# EAGLE library part XCR3128XL-VQ100 (library xess)
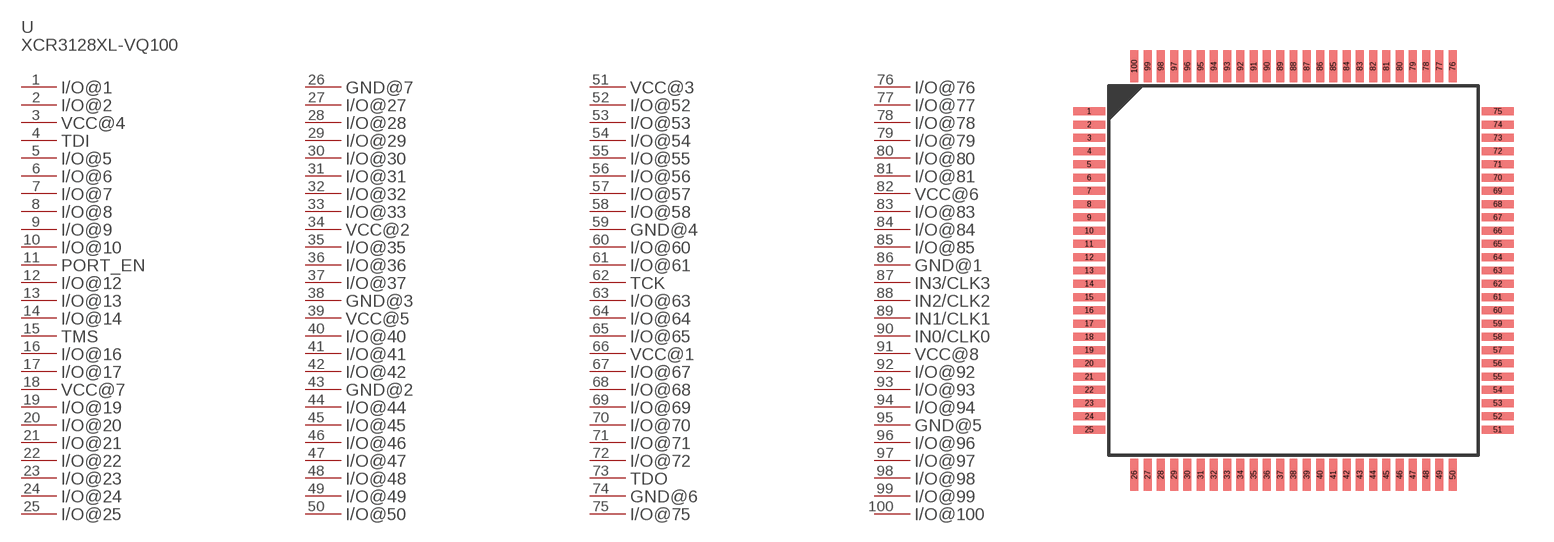
[diagram p60: symbol with the pads of XCR3128XL-VQ100; footprint XCR3128XL-VQ100]

Designator prefix U; gates PART_VALUE=PART_VALUE-XCR3128XL-VQ100 I/O@1=PL-XCR3128XL-VQ100 I/O@2=PL-XCR3128XL-VQ100 VCC@4=PL-XCR3128XL-VQ100 TDI=PL-XCR3128XL-VQ100 I/O@5=PL-XCR3128XL-VQ100 I/O@6=PL-XCR3128XL-VQ100 I/O@7=PL-XCR3128XL-VQ100 I/O@8=PL-XCR3128XL-VQ100 I/O@9=PL-XCR3128XL-VQ100 I/O@10=PL-XCR3128XL-VQ100 PORT_EN=PL-XCR3128XL-VQ100 I/O@12=PL-XCR3128XL-VQ100 I/O@13=PL-XCR3128XL-VQ100 I/O@14=PL-XCR3128XL-VQ100 TMS=PL-XCR3128XL-VQ100 I/O@16=PL-XCR3128XL-VQ100 I/O@17=PL-XCR3128XL-VQ100 VCC@7=PL-XCR3128XL-VQ100 I/O@19=PL-XCR3128XL-VQ100 I/O@20=PL-XCR3128XL-VQ100 I/O@21=PL-XCR3128XL-VQ100 I/O@22=PL-XCR3128XL-VQ100 I/O@23=PL-XCR3128XL-VQ100 I/O@24=PL-XCR3128XL-VQ100 I/O@25=PL-XCR3128XL-VQ100 GND@7=PL-XCR3128XL-VQ100 I/O@27=PL-XCR3128XL-VQ100 I/O@28=PL-XCR3128XL-VQ100 I/O@29=PL-XCR3128XL-VQ100 I/O@30=PL-XCR3128XL-VQ100 I/O@31=PL-XCR3128XL-VQ100 I/O@32=PL-XCR3128XL-VQ100 I/O@33=PL-XCR3128XL-VQ100 VCC@2=PL-XCR3128XL-VQ100 I/O@35=PL-XCR3128XL-VQ100 I/O@36=PL-XCR3128XL-VQ100 I/O@37=PL-XCR3128XL-VQ100 GND@3=PL-XCR3128XL-VQ100 VCC@5=PL-XCR3128XL-VQ100 I/O@40=PL-XCR3128XL-VQ100 I/O@41=PL-XCR3128XL-VQ100 I/O@42=PL-XCR3128XL-VQ100 GND@2=PL-XCR3128XL-VQ100 I/O@44=PL-XCR3128XL-VQ100 I/O@45=PL-XCR3128XL-VQ100 I/O@46=PL-XCR3128XL-VQ100 I/O@47=PL-XCR3128XL-VQ100 I/O@48=PL-XCR3128XL-VQ100 I/O@49=PL-XCR3128XL-VQ100 I/O@50=PL-XCR3128XL-VQ100 VCC@3=PL-XCR3128XL-VQ100 I/O@52=PL-XCR3128XL-VQ100 I/O@53=PL-XCR3128XL-VQ100 I/O@54=PL-XCR3128XL-VQ100 I/O@55=PL-XCR3128XL-VQ100 I/O@56=PL-XCR3128XL-VQ100 I/O@57=PL-XCR3128XL-VQ100 I/O@58=PL-XCR3128XL-VQ100 GND@4=PL-XCR3128XL-VQ100 I/O@60=PL-XCR3128XL-VQ100 I/O@61=PL-XCR3128XL-VQ100 TCK=PL-XCR3128XL-VQ100 I/O@63=PL-XCR3128XL-VQ100 I/O@64=PL-XCR3128XL-VQ100 I/O@65=PL-XCR3128XL-VQ100 VCC@1=PL-XCR3128XL-VQ100 I/O@67=PL-XCR3128XL-VQ100 I/O@68=PL-XCR3128XL-VQ100 I/O@69=PL-XCR3128XL-VQ100 I/O@70=PL-XCR3128XL-VQ100 I/O@71=PL-XCR3128XL-VQ100 I/O@72=PL-XCR3128XL-VQ100 TDO=PL-XCR3128XL-VQ100 GND@6=PL-XCR3128XL-VQ100 I/O@75=PL-XCR3128XL-VQ100 I/O@76=PL-XCR3128XL-VQ100 I/O@77=PL-XCR3128XL-VQ100 I/O@78=PL-XCR3128XL-VQ100 I/O@79=PL-XCR3128XL-VQ100 I/O@80=PL-XCR3128XL-VQ100 I/O@81=PL-XCR3128XL-VQ100 VCC@6=PL-XCR3128XL-VQ100 I/O@83=PL-XCR3128XL-VQ100 I/O@84=PL-XCR3128XL-VQ100 I/O@85=PL-XCR3128XL-VQ100 GND@1=PL-XCR3128XL-VQ100 IN3/CLK3=PL-XCR3128XL-VQ100 IN2/CLK2=PL-XCR3128XL-VQ100 IN1/CLK1=PL-XCR3128XL-VQ100 IN0/CLK0=PL-XCR3128XL-VQ100 VCC@8=PL-XCR3128XL-VQ100 I/O@92=PL-XCR3128XL-VQ100 I/O@93=PL-XCR3128XL-VQ100 I/O@94=PL-XCR3128XL-VQ100 GND@5=PL-XCR3128XL-VQ100 I/O@96=PL-XCR3128XL-VQ100 I/O@97=PL-XCR3128XL-VQ100 I/O@98=PL-XCR3128XL-VQ100 I/O@99=PL-XCR3128XL-VQ100 I/O@100=PL-XCR3128XL-VQ100

## XCR3128XL-VQ100  [XCR3128XL-VQ100]
1  I/O@1:P$1
2  I/O@2:P$1
3  VCC@4:P$1
4  TDI:P$1
5  I/O@5:P$1
6  I/O@6:P$1
7  I/O@7:P$1
8  I/O@8:P$1
9  I/O@9:P$1
10  I/O@10:P$1
11  PORT_EN:P$1
12  I/O@12:P$1
13  I/O@13:P$1
14  I/O@14:P$1
15  TMS:P$1
16  I/O@16:P$1
17  I/O@17:P$1
18  VCC@7:P$1
19  I/O@19:P$1
20  I/O@20:P$1
21  I/O@21:P$1
22  I/O@22:P$1
23  I/O@23:P$1
24  I/O@24:P$1
25  I/O@25:P$1
26  GND@7:P$1
27  I/O@27:P$1
28  I/O@28:P$1
29  I/O@29:P$1
30  I/O@30:P$1
31  I/O@31:P$1
32  I/O@32:P$1
33  I/O@33:P$1
34  VCC@2:P$1
35  I/O@35:P$1
36  I/O@36:P$1
37  I/O@37:P$1
38  GND@3:P$1
39  VCC@5:P$1
40  I/O@40:P$1
41  I/O@41:P$1
42  I/O@42:P$1
43  GND@2:P$1
44  I/O@44:P$1
45  I/O@45:P$1
46  I/O@46:P$1
47  I/O@47:P$1
48  I/O@48:P$1
49  I/O@49:P$1
50  I/O@50:P$1
51  VCC@3:P$1
52  I/O@52:P$1
53  I/O@53:P$1
54  I/O@54:P$1
55  I/O@55:P$1
56  I/O@56:P$1
57  I/O@57:P$1
58  I/O@58:P$1
59  GND@4:P$1
60  I/O@60:P$1
61  I/O@61:P$1
62  TCK:P$1
63  I/O@63:P$1
64  I/O@64:P$1
65  I/O@65:P$1
66  VCC@1:P$1
67  I/O@67:P$1
68  I/O@68:P$1
69  I/O@69:P$1
70  I/O@70:P$1
71  I/O@71:P$1
72  I/O@72:P$1
73  TDO:P$1
74  GND@6:P$1
75  I/O@75:P$1
76  I/O@76:P$1
77  I/O@77:P$1
78  I/O@78:P$1
79  I/O@79:P$1
80  I/O@80:P$1
81  I/O@81:P$1
82  VCC@6:P$1
83  I/O@83:P$1
84  I/O@84:P$1
85  I/O@85:P$1
86  GND@1:P$1
87  IN3/CLK3:P$1
88  IN2/CLK2:P$1
89  IN1/CLK1:P$1
90  IN0/CLK0:P$1
91  VCC@8:P$1
92  I/O@92:P$1
93  I/O@93:P$1
94  I/O@94:P$1
95  GND@5:P$1
96  I/O@96:P$1
97  I/O@97:P$1
98  I/O@98:P$1
99  I/O@99:P$1
100  I/O@100:P$1

## Footprint XCR3128XL-VQ100 (pad centres in mm)
smd 1.2 x 0.3: 1 0,0; 2 0,-0.5; 3 0,-1; 4 0,-1.5; 5 0,-2; 6 0,-2.5; 7 0,-3; 8 0,-3.5; 9 0,-4; 10 0,-4.5; 11 0,-5; 12 0,-5.5; 13 0,-6; 14 0,-6.5; 15 0,-7; 16 0,-7.5; 17 0,-8; 18 0,-8.5; 19 0,-9; 20 0,-9.5; 21 0,-10; 22 0,-10.5; 23 0,-11; 24 0,-11.5; 25 0,-12; 51 15.4,-12; 52 15.4,-11.5; 53 15.4,-11; 54 15.4,-10.5; 55 15.4,-10; 56 15.4,-9.5; 57 15.4,-9; 58 15.4,-8.5; 59 15.4,-8; 60 15.4,-7.5; 61 15.4,-7; 62 15.4,-6.5; 63 15.4,-6; 64 15.4,-5.5; 65 15.4,-5; 66 15.4,-4.5; 67 15.4,-4; 68 15.4,-3.5; 69 15.4,-3; 70 15.4,-2.5; 71 15.4,-2; 72 15.4,-1.5; 73 15.4,-1; 74 15.4,-0.5; 75 15.4,0
smd 0.3 x 1.2: 26 1.7,-13.7; 27 2.2,-13.7; 28 2.7,-13.7; 29 3.2,-13.7; 30 3.7,-13.7; 31 4.2,-13.7; 32 4.7,-13.7; 33 5.2,-13.7; 34 5.7,-13.7; 35 6.2,-13.7; 36 6.7,-13.7; 37 7.2,-13.7; 38 7.7,-13.7; 39 8.2,-13.7; 40 8.7,-13.7; 41 9.2,-13.7; 42 9.7,-13.7; 43 10.2,-13.7; 44 10.7,-13.7; 45 11.2,-13.7; 46 11.7,-13.7; 47 12.2,-13.7; 48 12.7,-13.7; 49 13.2,-13.7; 50 13.7,-13.7; 76 13.7,1.7; 77 13.2,1.7; 78 12.7,1.7; 79 12.2,1.7; 80 11.7,1.7; 81 11.2,1.7; 82 10.7,1.7; 83 10.2,1.7; 84 9.7,1.7; 85 9.2,1.7; 86 8.7,1.7; 87 8.2,1.7; 88 7.7,1.7; 89 7.2,1.7; 90 6.7,1.7; 91 6.2,1.7; 92 5.7,1.7; 93 5.2,1.7; 94 4.7,1.7; 95 4.2,1.7; 96 3.7,1.7; 97 3.2,1.7; 98 2.7,1.7; 99 2.2,1.7; 100 1.7,1.7